# Altium schematic symbol library AZ1117IH-3.3TRG1.SchLib: 1 symbol
Pins are listed as number, name and electrical type; pins without a type are passive.

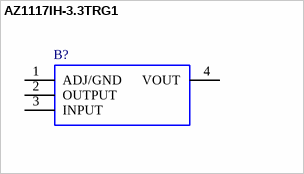
[diagram p0: symbol AZ1117IH-3.3TRG1]

## AZ1117IH-3.3TRG1
designator B?
LDO Voltage Regulators LDO BJT HiCurr 1.35A 10Hz to 10KHz; Manufacturer_Name: Diodes Inc.; Geometry.Height: 1.8mm; Mouser Part Number: 621-AZ1117IH-3.3TRG1; Mouser Price/Stock: https://www.mouser.co.uk/ProductDetail/Diodes-Incorporated/AZ1117IH-3.3TRG1?qs=cpo3%2FpBou2jnS4SxLgAVoA%3D%3D; Manufacturer_Part_Number: AZ1117IH-3.3TRG1; Datasheet Link: *
footprint SOT230P700X180-4N
pins: 1 ADJ/GND, 2 OUTPUT, 3 INPUT, 4 VOUT